# Altium footprint library ECQP(Z)-5mm.PcbLib: 1 footprints
Each footprint in its own frame and in the unit in brackets; x right, y up, seen from the top. Pads: shape width x height; smd on the part's side, far side on the other; paste and mask are expansions set on the pad; w line width, h text height; cw(c..) or ccw(c..) is an arc to the next point about the centre after c.
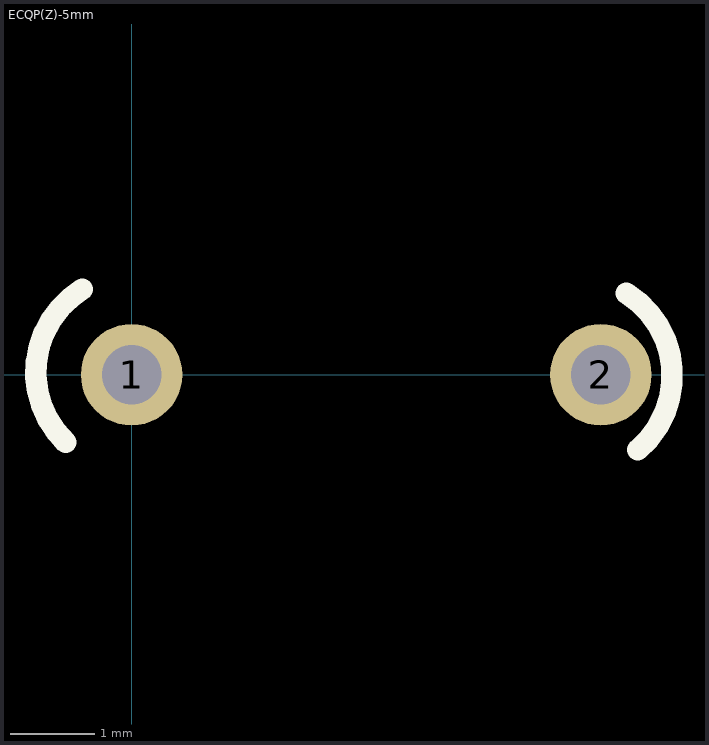
[diagram p0: the footprint, top view; thin cyan lines are the x and y axes]

## ECQP(Z)-5mm [mm]
height 12.5
pads (2):
  round 1.2 hole 0.7: 1(0,0) 2(5.543,0)
TopOverlay:
  lines w0.254: -0.778,-0.8 cw(c0.018,0.029) -0.586,1.008 ; 5.846,0.963 cw(c5.236,-0.012) 5.982,-0.887
3D body: height 8.78, standoff 1.78, extent -0.829,-2.751 6.372,2.751
3D body: height 1.78, standoff -1.57, extent -0.315,-0.317 0.318,0.317
3D body: height 1.78, standoff -1.57, extent 5.229,-0.317 5.861,0.317